# Altium footprint library FE20(16).PcbLib: 1 footprints
Each footprint in its own frame and in the unit in brackets; x right, y up, seen from the top. Pads: shape width x height; smd on the part's side, far side on the other; paste and mask are expansions set on the pad; w line width, h text height; cw(c..) or ccw(c..) is an arc to the next point about the centre after c.
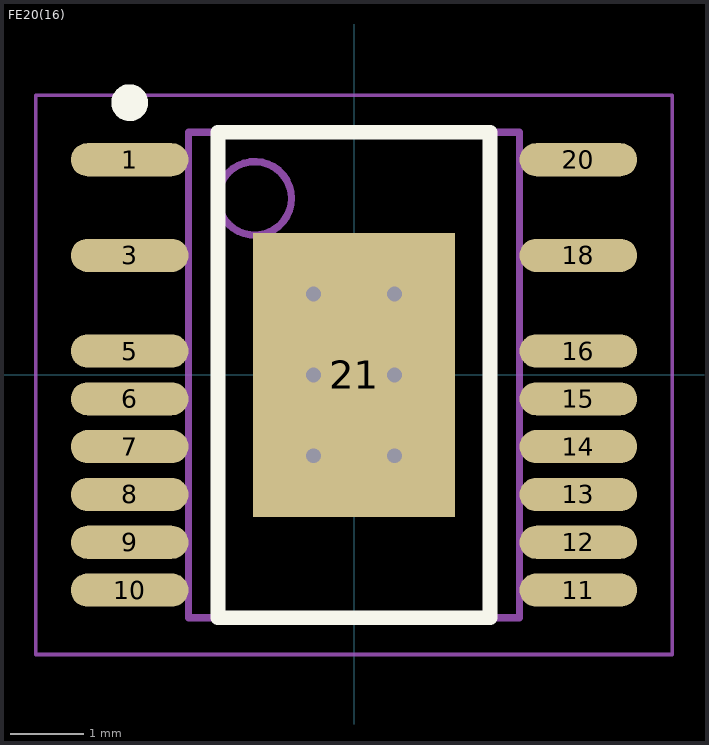
[diagram p0: the footprint, top view; thin cyan lines are the x and y axes]

## FE20(16) [mm] "TSSOP with Ground Pad and Missing Pins"
height 1.2
pads (17):
  oval 1.6x0.45 smd: 1(-3.05,2.925) 3(-3.05,1.625) 5(-3.05,0.325) 6(-3.05,-0.325) 7(-3.05,-0.975) 8(-3.05,-1.625) 9(-3.05,-2.275) 10(-3.05,-2.925) 11(3.05,-2.925) 12(3.05,-2.275) 13(3.05,-1.625) 14(3.05,-0.975) 15(3.05,-0.325) 16(3.05,0.325) 18(3.05,1.625) 20(3.05,2.925)
  rect 2.74x3.86 smd: 21(0,0)
via 0.55,-1.1 diameter 0.5 hole 0.2
via -0.55,-1.1 diameter 0.5 hole 0.2
via 0.55,0 diameter 0.5 hole 0.2
via -0.55,0 diameter 0.5 hole 0.2
via 0.55,1.1 diameter 0.5 hole 0.2
via -0.55,1.1 diameter 0.5 hole 0.2
Top Overlay:
  circle w0.25: c-3.05,3.7 r0.125
  lines w0.2: -1.85,-3.3 1.85,-3.3 1.85,3.3 -1.85,3.3 -1.85,-3.3
Mechanical 13:
  circle w0.1: c-1.35,2.4 r0.5
  lines w0.1: -2.25,-3.3 2.25,-3.3 2.25,3.3 -2.25,3.3 -2.25,-3.3
Mechanical 15:
  lines w0.05: -4.325,-3.8 4.325,-3.8 4.325,3.8 -4.325,3.8 -4.325,-3.8
  lines w0.1: -0.5,0 0.5,0 ; 0,-0.5 0,0.5
3D body "FE20(16).step": height 1.2, standoff 0, extent -3.225,-3.3 3.225,3.3